# EAGLE library part LTC1044 (library ic)
LTC1044: Switched capacitor voltage converter (Linear Technology) Inverter, doubler, divider or multiplier
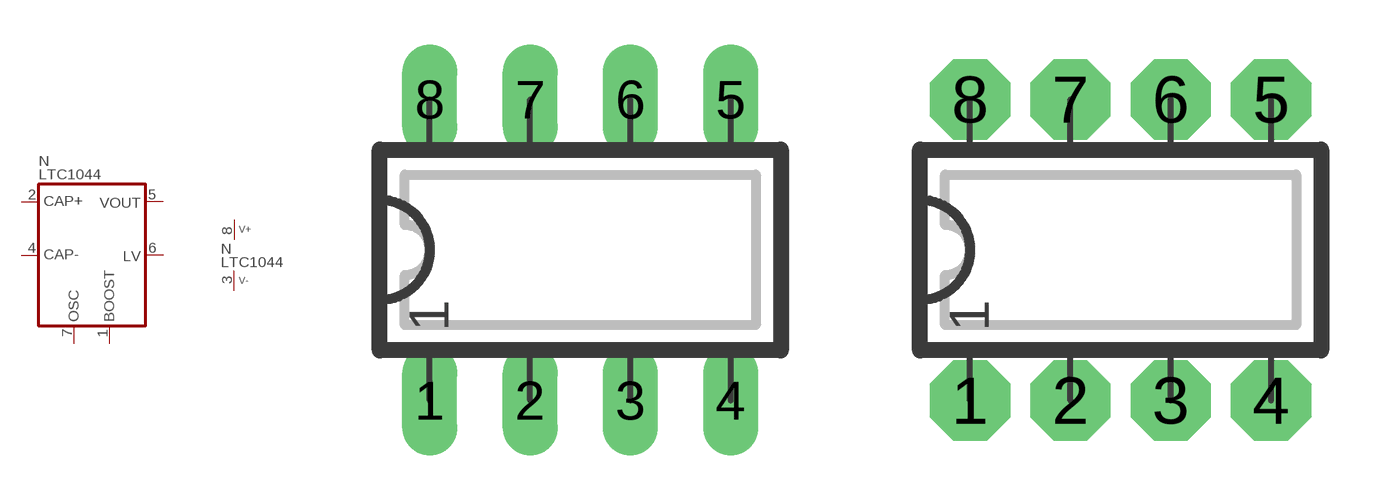
[diagram p88: symbol with the pads of DIP08L; footprints DIP08L, DIP08N]

Designator prefix N; gates  =LTC1044 P=V+-

## LTC1044  [DIP08L]
1   :BOOST
2   :CAP+
3  P:V-  pwr
4   :CAP-
5   :VOUT
6   :LV
7   :OSC
8  P:V+  pwr

## LTC1044L  [DIP08L]
Pads as for DIP08L

## LTC1044N  [DIP08N]
Pads as for DIP08L

## LTC1044R  [DIP08R]
Pads as for DIP08L

## Footprint DIP08L (pad centres in mm)
DIP-8, long pads Standard IC package, 8 pins
drill 0.813 pad 1.397 long: 1 -3.81,-3.81; 2 -1.27,-3.81; 3 1.27,-3.81; 4 3.81,-3.81; 5 3.81,3.81; 6 1.27,3.81; 7 -1.27,3.81; 8 -3.81,3.81

## Footprint DIP08N (pad centres in mm)
DIP-8 Standard IC package, 8 pins
drill 0.813 pad 2.032 octagon: 1 -3.81,-3.81; 2 -1.27,-3.81; 3 1.27,-3.81; 4 3.81,-3.81; 5 3.81,3.81; 6 1.27,3.81; 7 -1.27,3.81; 8 -3.81,3.81

## Footprint DIP08R (pad centres in mm)
DIP-8, reduced pads Standard IC package, 8 pins
drill 0.813 pad 1.397 square: 1 -3.81,-3.81; 2 -1.27,-3.81; 3 1.27,-3.81; 4 3.81,-3.81; 5 3.81,3.81; 6 1.27,3.81; 7 -1.27,3.81; 8 -3.81,3.81